# Altium integrated library 2132271210.IntLib: 1 symbol
Pins are listed as number, name and electrical type; pins without a type are passive.

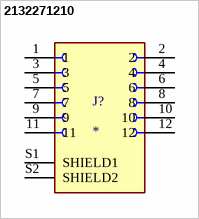
[diagram p0: symbol 2132271210]

## 2132271210
designator J?
MP: 2132271210; Value: *; Price: None; Availability: Unavailable; Package: None
footprint MOLEX_2132271210
pins: 1, 2, 3, 4, 5, 6, 7, 8, 9, 10, 11, 12, S1 SHIELD1, S2 SHIELD2